# Altium integrated library FuseHolder.IntLib: 14 symbols
Pins are listed as number, name and electrical type; pins without a type are passive.

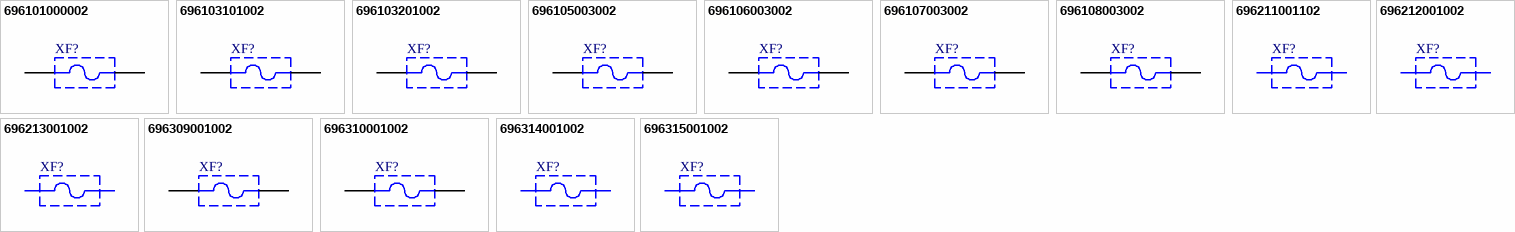
[diagram p0: symbols 696101000002 to 696315001002]

## 696101000002
designator XF?
WR-FSH Fuse Holder Blocks Fuse Holder Blocks Clip Cover for PCB; Part Number: 696101000002; Fuse Size: 5x20 mm; ComponentLink1Description: Manufacturer; ComponentLink1URL: http://www.we-online.de; ComponentLink2Description: Datasheet; ComponentLink2URL: https://katalog.we-online.de/em/datasheet/696101000002.pdf; Published Date: August 2018; Publisher: Wurth Elektronik; Operating Temperature: -30 to 120 degC; Mounting Technology: THT; Packaging: Box
footprint 696101000002
pins: 1, 2

## 696103101002
designator XF?
WR-FSH Fuse Holder Blocks Fuse Holder Blocks Clip Cover for PCB - SMT Version; Part Number: 696103101002; Fuse Size: 5x20 mm; ComponentLink1Description: Manufacturer; ComponentLink1URL: http://www.we-online.de; ComponentLink2Description: Datasheet; ComponentLink2URL: https://katalog.we-online.de/em/datasheet/696103101002.pdf; Published Date: August 2018; Publisher: Wurth Elektronik; Operating Temperature: -30 to 120 degC; Mounting Technology: SMT; Packaging: Box
footprint 696103101002
pins: 1, 2

## 696103201002
designator XF?
WR-FSH Fuse Holder Blocks Fuse Holder Blocks Clip Cover for PCB - THR Version; Part Number: 696103201002; Fuse Size: 5x20 mm; ComponentLink1Description: Manufacturer; ComponentLink1URL: http://www.we-online.de; ComponentLink2Description: Datasheet; ComponentLink2URL: https://katalog.we-online.de/em/datasheet/696103201002.pdf; Published Date: August 2018; Publisher: Wurth Elektronik; Operating Temperature: -30 to 120 degC; Mounting Technology: THR; Packaging: Box
footprint 696103201002
pins: 1, 2

## 696105003002
designator XF?
WR-FSH Fuse Holder Blocks Fuse Holder Blocks Clip Cover for PCB; Part Number: 696105003002; Fuse Size: 5x20 mm; ComponentLink1Description: Manufacturer; ComponentLink1URL: http://www.we-online.de; ComponentLink2Description: Datasheet; ComponentLink2URL: https://katalog.we-online.de/em/datasheet/696105003002.pdf; Published Date: August 2018; Publisher: Wurth Elektronik; Operating Temperature: -30 to 120 degC; Mounting Technology: THT; Packaging: Box
footprint 696105003002
pins: 1, 2

## 696106003002
designator XF?
WR-FSH Fuse Holder Blocks Fuse Holder Blocks Clip Cover for PCB; Part Number: 696106003002; Fuse Size: 5x20 mm; ComponentLink1Description: Manufacturer; ComponentLink1URL: http://www.we-online.de; ComponentLink2Description: Datasheet; ComponentLink2URL: https://katalog.we-online.de/em/datasheet/696106003002.pdf; Published Date: August 2018; Publisher: Wurth Elektronik; Operating Temperature: -30 to 120 degC; Mounting Technology: THT; Packaging: Box
footprint 696106003002
pins: 1, 2

## 696107003002
designator XF?
WR-FSH Fuse Holder Blocks Fuse Holder Blocks Clip Cover for PCB; Part Number: 696107003002; Fuse Size: 5x20 mm; ComponentLink1Description: Manufacturer; ComponentLink1URL: http://www.we-online.de; ComponentLink2Description: Datasheet; ComponentLink2URL: https://katalog.we-online.de/em/datasheet/696107003002.pdf; Published Date: August 2018; Publisher: Wurth Elektronik; Operating Temperature: -30 to 120 degC; Mounting Technology: THT; Packaging: Box
footprint 696107003002
pins: 1, 2

## 696108003002
designator XF?
WR-FSH Fuse Holder Blocks Fuse Holder Blocks Clip Cover for PCB; Part Number: 696108003002; Fuse Size: 5x20 mm; ComponentLink1Description: Manufacturer; ComponentLink1URL: http://www.we-online.de; ComponentLink2Description: Datasheet; ComponentLink2URL: https://katalog.we-online.de/em/datasheet/696108003002.pdf; Published Date: August 2018; Publisher: Wurth Elektronik; Operating Temperature: -30 to 120 degC; Mounting Technology: THT; Packaging: Box
footprint 696108003002
pins: 1, 2

## 696211001102
designator XF?
WR-FSH Shocksafe Fuse Holder Shocksafe Fuse Holder Screw'n Lock for Panel; Part Number: 696211001102; Fuse Size: 5x20 mm; ComponentLink1Description: Manufacturer; ComponentLink1URL: http://www.we-online.de; ComponentLink2Description: Datasheet; ComponentLink2URL: https://katalog.we-online.de/em/datasheet/696211001102.pdf; Published Date: August 2018; Publisher: Wurth Elektronik; Operating Temperature: -30 to 120 degC; Mounting Technology: Manual Soldering; Packaging: Box
footprint 696211001102 (SHOCKSAFE FUSEHOLDERS - PANEL - SCREW’N LOCK COVER - THT)

## 696212001002
designator XF?
WR-FSH Shocksafe Fuse Holder Shocksafe Fuse Holder Screw'n Lock for Panel; Part Number: 696212001002; Fuse Size: 5x20 mm; ComponentLink1Description: Manufacturer; ComponentLink1URL: http://www.we-online.de; ComponentLink2Description: Datasheet; ComponentLink2URL: https://katalog.we-online.de/em/datasheet/696212001002.pdf; Published Date: August 2018; Publisher: Wurth Elektronik; Operating Temperature: -30 to 120 degC; Mounting Technology: Manual Soldering; Packaging: Box
footprint 696212001002 (SHOCKSAFE FUSEHOLDERS - PANEL - SCREW’N LOCK COVER - THT)

## 696213001002
designator XF?
WR-FSH Shocksafe Fuse Holder Shocksafe Fuse Holder Screw'n Lock for Panel; Part Number: 696213001002; Fuse Size: 5x20 mm; ComponentLink1Description: Manufacturer; ComponentLink1URL: http://www.we-online.de; ComponentLink2Description: Datasheet; ComponentLink2URL: https://katalog.we-online.de/em/datasheet/696213001002.pdf; Published Date: August 2018; Publisher: Wurth Elektronik; Operating Temperature: -30 to 120 degC; Mounting Technology: Manual Soldering; Packaging: Box
footprint 696213001002 (SHOCKSAFE FUSEHOLDERS - PANEL - SCREW’N LOCK COVER - THT)

## 696309001002
designator XF?
WR-FSH Shocksafe Fuse Holder Shocksafe Vertical Fuse Holder Turn'n Lock for PCB; Part Number: 696309001002; Fuse Size: 5x20 mm; ComponentLink1Description: Manufacturer; ComponentLink1URL: http://www.we-online.de; ComponentLink2Description: Datasheet; ComponentLink2URL: https://katalog.we-online.de/em/datasheet/696309001002.pdf; Published Date: August 2018; Publisher: Wurth Elektronik; Operating Temperature: -30 to 120 degC; Mounting Technology: THT; Packaging: Box
footprint 696309001002 (SHOCKSAFE FUSEHOLDERS - PCB - TURN’N LOCK COVER - THT)
pins: 1, 2

## 696310001002
designator XF?
WR-FSH Shocksafe Fuse Holder Shocksafe Vertical Fuse Holder Turn'n Lock for PCB; Part Number: 696310001002; Fuse Size: 5x20 mm; ComponentLink1Description: Manufacturer; ComponentLink1URL: http://www.we-online.de; ComponentLink2Description: Datasheet; ComponentLink2URL: https://katalog.we-online.de/em/datasheet/696310001002.pdf; Published Date: August 2018; Publisher: Wurth Elektronik; Operating Temperature: -30 to 120 degC; Mounting Technology: THT; Packaging: Box
footprint 696310001002 (SHOCKSAFE FUSEHOLDERS - PCB - TURN’N LOCK COVER - THT)
pins: 1, 2

## 696314001002
designator XF?
WR-FSH Shocksafe Fuse Holder Shocksafe Fuse Holder Turn'n Lock for Panel; Part Number: 696314001002; Fuse Size: 5x20 mm; ComponentLink1Description: Manufacturer; ComponentLink1URL: http://www.we-online.de; ComponentLink2Description: Datasheet; ComponentLink2URL: https://katalog.we-online.de/em/datasheet/696314001002.pdf; Published Date: August 2018; Publisher: Wurth Elektronik; Operating Temperature: -30 to 120 degC; Mounting Technology: Manual Soldering; Packaging: Box
footprint 696314001002 (SHOCKSAFE FUSEHOLDERS - PANEL - TURN’N LOCK COVER - THT)

## 696315001002
designator XF?
WR-FSH Shocksafe Fuse Holder Shocksafe Fuse Holder Turn'n Lock for Panel; Part Number: 696315001002; Fuse Size: 5x20 mm; ComponentLink1Description: Manufacturer; ComponentLink1URL: http://www.we-online.de; ComponentLink2Description: Datasheet; ComponentLink2URL: https://katalog.we-online.de/em/datasheet/696315001002.pdf; Published Date: August 2018; Publisher: Wurth Elektronik; Operating Temperature: -30 to 120 degC; Mounting Technology: Manual Soldering; Packaging: Box
footprint 696315001002 (SHOCKSAFE FUSEHOLDERS - PANEL - TURN’N LOCK COVER - THT)